# Altium schematic symbol library Seven_Segment_SCHEMATIC.SchLib: 1 symbol
Pins are listed as number, name and electrical type; pins without a type are passive.

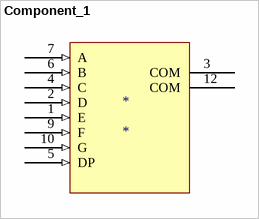
[diagram p0: symbol Component_1]

## Component_1
designator *
footprint PCBComponent_1
pins: 1 E (in), 2 D (in), 3 COM (power) "VCC/GND", 4 C (in), 5 DP (in), 6 B (in), 7 A (in), 9 F (in), 10 G (in), 12 COM (power) "VCC/GND"